# EAGLE library part EE2-3NUH-L (library EE2-3NUH-L)
DPDT Surface Mount Non-Latching Relay 2 A, 3V dc Source: Datasheet <https://api.kemet.com/component-edge/download/datasheet/EE2-3NUH-L.pdf>
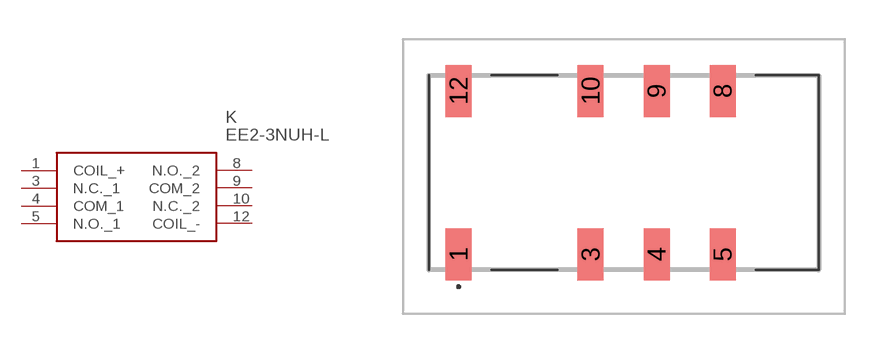
[diagram p0: symbol with the pads of EE23NUHL; footprint EE23NUHL]

Designator prefix K

## EE2-3NUH-L (Allied_Number: 70302404; Allied_Price-Stock: https://www.alliedelec.com/kemet-ee2-3nuh-l/70302404/; Description: DPDT Surface Mount Non-Latching Relay 2 A, 3V dc; Height: 10mm; Manufacturer_Name: Kemet; Manufacturer_Part_Number: EE2-3NUH-L; Mouser_Part_Number: 80-EE2-3NUH-L; Mouser_Price-Stock: https://www.mouser.com/Search/Refine.aspx?Keyword=80-EE2-3NUH-L; RS_Part_Number: 8705447; RS_Price-Stock: http://uk.rs-online.com/web/p/products/8705447)  [EE23NUHL]
1  COIL_+
3  N.C._1
4  COM_1
5  N.O._1
8  N.O._2
9  COM_2
10  N.C._2
12  COIL_-

## Footprint EE23NUHL (pad centres in mm)
EE2 NUH
smd 1 x 2: 1 -6.35,-3.145; 3 -1.27,-3.145; 4 1.27,-3.145; 5 3.81,-3.145; 8 3.81,3.145; 9 1.27,3.145; 10 -1.27,3.145; 12 -6.35,3.145